# EAGLE library part LT1004CDR-1-2 (library untitled)
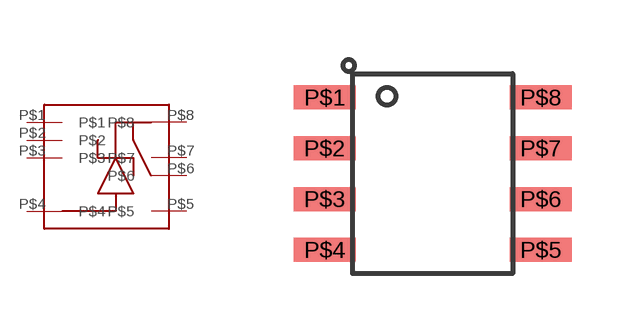
[diagram p21: symbol with the pads of SO8; footprint SO8]

Designator prefix -

## LT1004CDR-1-2  [SO8]
P$1  P$1
P$2  P$2
P$3  P$3
P$4  P$4
P$5  P$5
P$6  P$6
P$7  P$7
P$8  P$8

## Footprint SO8 (pad centres in mm)
smd 1.55 x 0.6: P$1 -2.7,1.905; P$2 -2.705,0.635; P$3 -2.705,-0.635; P$4 -2.7,-1.905; P$5 2.7,-1.905; P$6 2.7,-0.635; P$7 2.7,0.635; P$8 2.7,1.905